# EAGLE library part ESP-12-E (library esp8266modules)
ESP8266 Wifi Module ESP-12-E
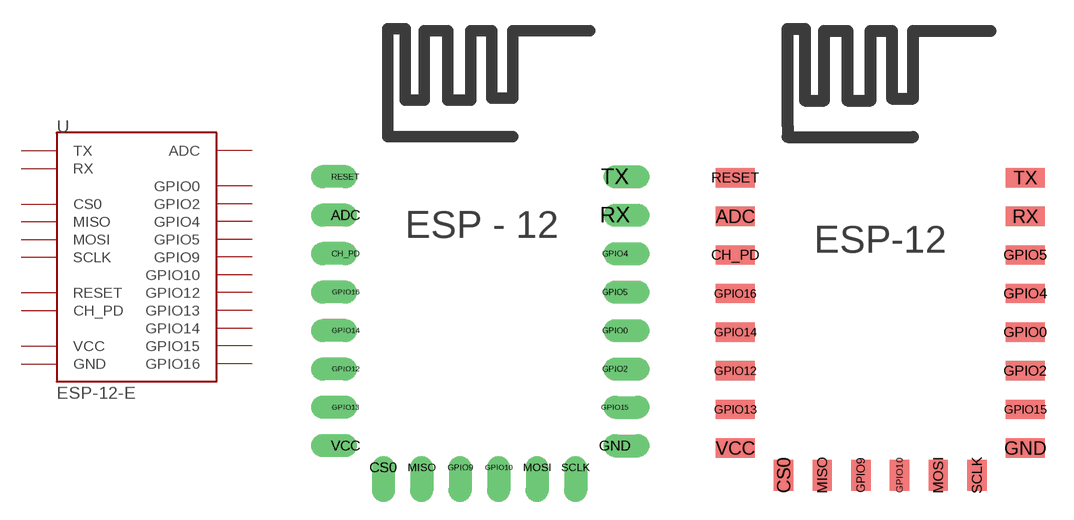
[diagram p13: symbol with the pads of ESP-12-E-THT; footprints ESP-12-E-THT, ESP-12-E_SMD]

Designator prefix U

## ESP-12-E_HOLES (DIMENSIONS: 24.0 x 16.0 mm; PINS: 22; PITCH: 0.078" / 2 mm)  [ESP-12-E-THT]
ADC  ADC
CH_PD  CH_PD
CS0  CS0
GND  GND
GPIO0  GPIO0
GPIO2  GPIO2
GPIO4  GPIO4
GPIO5  GPIO5
GPIO9  GPIO9
GPIO10  GPIO10
GPIO12  GPIO12
GPIO13  GPIO13
GPIO14  GPIO14
GPIO15  GPIO15
GPIO16  GPIO16
MISO  MISO
MOSI  MOSI
RESET  RESET
RX  RX
SCLK  SCLK
TX  TX
VCC  VCC

## ESP-12-E  [ESP-12-E_SMD]
Pads as for ESP-12-E-THT

## ESP-12-E_POGO  [ESP-12-E_POGO]
Pads as for ESP-12-E-THT

## Footprint ESP-12-E-THT (pad centres in mm)
ESP8266 Module ESP-12-E
drill 0.7 offset: ADC -7.1,3.8; CH_PD -7.1,1.8; CS0 -5.14,-9.33; GND 6.9,-8.2; GPIO0 6.9,-2.2; GPIO2 6.9,-4.2; GPIO4 6.9,1.8; GPIO5 6.9,-0.2; GPIO9 -1.14,-9.33; GPIO10 0.86,-9.33; GPIO12 -7.1,-4.2; GPIO13 -7.1,-6.2; GPIO14 -7.1,-2.2; GPIO15 6.9,-6.2; GPIO16 -7.1,-0.2; MISO -3.14,-9.33; MOSI 2.86,-9.33; RESET -7.1,5.8; RX 6.9,3.8; SCLK 4.86,-9.33; TX 6.9,5.8; VCC -7.1,-8.2

## Footprint ESP-12-E_SMD (pad centres in mm)
ESP8266 Module ESP-12-E
smd 2 x 1: ADC -7.5,3.8; CH_PD -7.5,1.8; GND 7.5,-8.2; GPIO0 7.5,-2.2; GPIO2 7.5,-4.2; GPIO4 7.5,-0.2; GPIO5 7.5,1.8; GPIO12 -7.5,-4.2; GPIO13 -7.5,-6.2; GPIO14 -7.5,-2.2; GPIO15 7.5,-6.2; GPIO16 -7.5,-0.2; RESET -7.5,5.8; RX 7.5,3.8; TX 7.5,5.8; VCC -7.5,-8.2
smd 1 x 1.6: CS0 -5,-9.6; GPIO9 -1,-9.6; GPIO10 1,-9.6; MISO -3,-9.6; MOSI 3,-9.6; SCLK 5,-9.6

## Footprint ESP-12-E_POGO (pad centres in mm)
ESP8266 Module ESP-12-E
drill 1 octagon: ADC -8,3.8; CH_PD -8,1.8; CS0 -5,-10.2; GND 8,-8.2; GPIO0 8,-2.2; GPIO2 8,-4.2; GPIO4 8,-0.2; GPIO5 8,1.8; GPIO9 -1,-10.2; GPIO10 1,-10.2; GPIO12 -8,-4.2; GPIO13 -8,-6.2; GPIO14 -8,-2.2; GPIO15 8,-6.2; GPIO16 -8,-0.2; MISO -3,-10.2; MOSI 3,-10.2; RESET -8,5.8; RX 8,3.8; SCLK 5,-10.2; TX 8,5.8; VCC -8,-8.2